# Altium footprint library SHARP_10.PcbLib: 1 footprints
Each footprint in its own frame and in the unit in brackets; x right, y up, seen from the top. Pads: shape width x height; smd on the part's side, far side on the other; paste and mask are expansions set on the pad; w line width, h text height; cw(c..) or ccw(c..) is an arc to the next point about the centre after c.
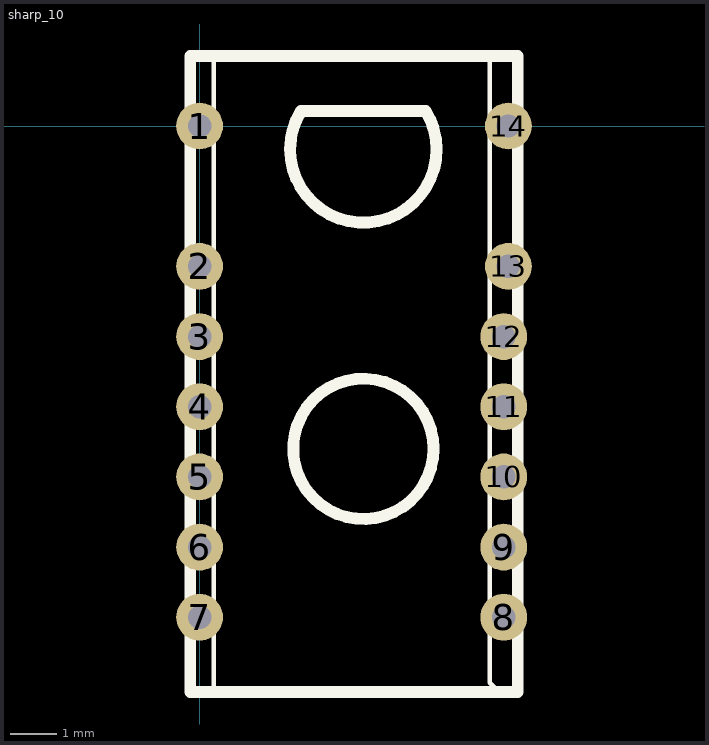
[diagram p0: the footprint, top view; thin cyan lines are the x and y axes]

## sharp_10 [mm]
pads (14):
  round 1 hole 0.5: 1(0,0) 2(0,-3) 3(0,-4.5) 4(0,-6) 5(0,-7.5) 6(0,-9) 7(0,-10.5) 8(6.5,-10.5) 9(6.5,-9) 10(6.5,-7.5) 11(6.5,-6) 12(6.5,-4.5) 13(6.6,-3) 14(6.6,0)
Top Overlay:
  circle w0.254: c3.5,-6.9 r1.5
  lines w0.1: 0.3,1.5 0.3,-12 0.2,-12.1 6.4,-12.1 6.2,-11.9 6.2,1.5
  lines w0.254: -0.2,-12.1 6.8,-12.1 6.8,1.5 -0.2,1.5 -0.2,-12.1 ; 2.167,0.32 ccw(c3.5,-0.5) 4.833,0.32 2.167,0.32